# Altium footprint library mypcblib.PcbLib: 128 footprints (part 7 of 8)
Each footprint in its own frame and in the unit in brackets; x right, y up, seen from the top. Pads: shape width x height; smd on the part's side, far side on the other; paste and mask are expansions set on the pad; w line width, h text height; cw(c..) or ccw(c..) is an arc to the next point about the centre after c.
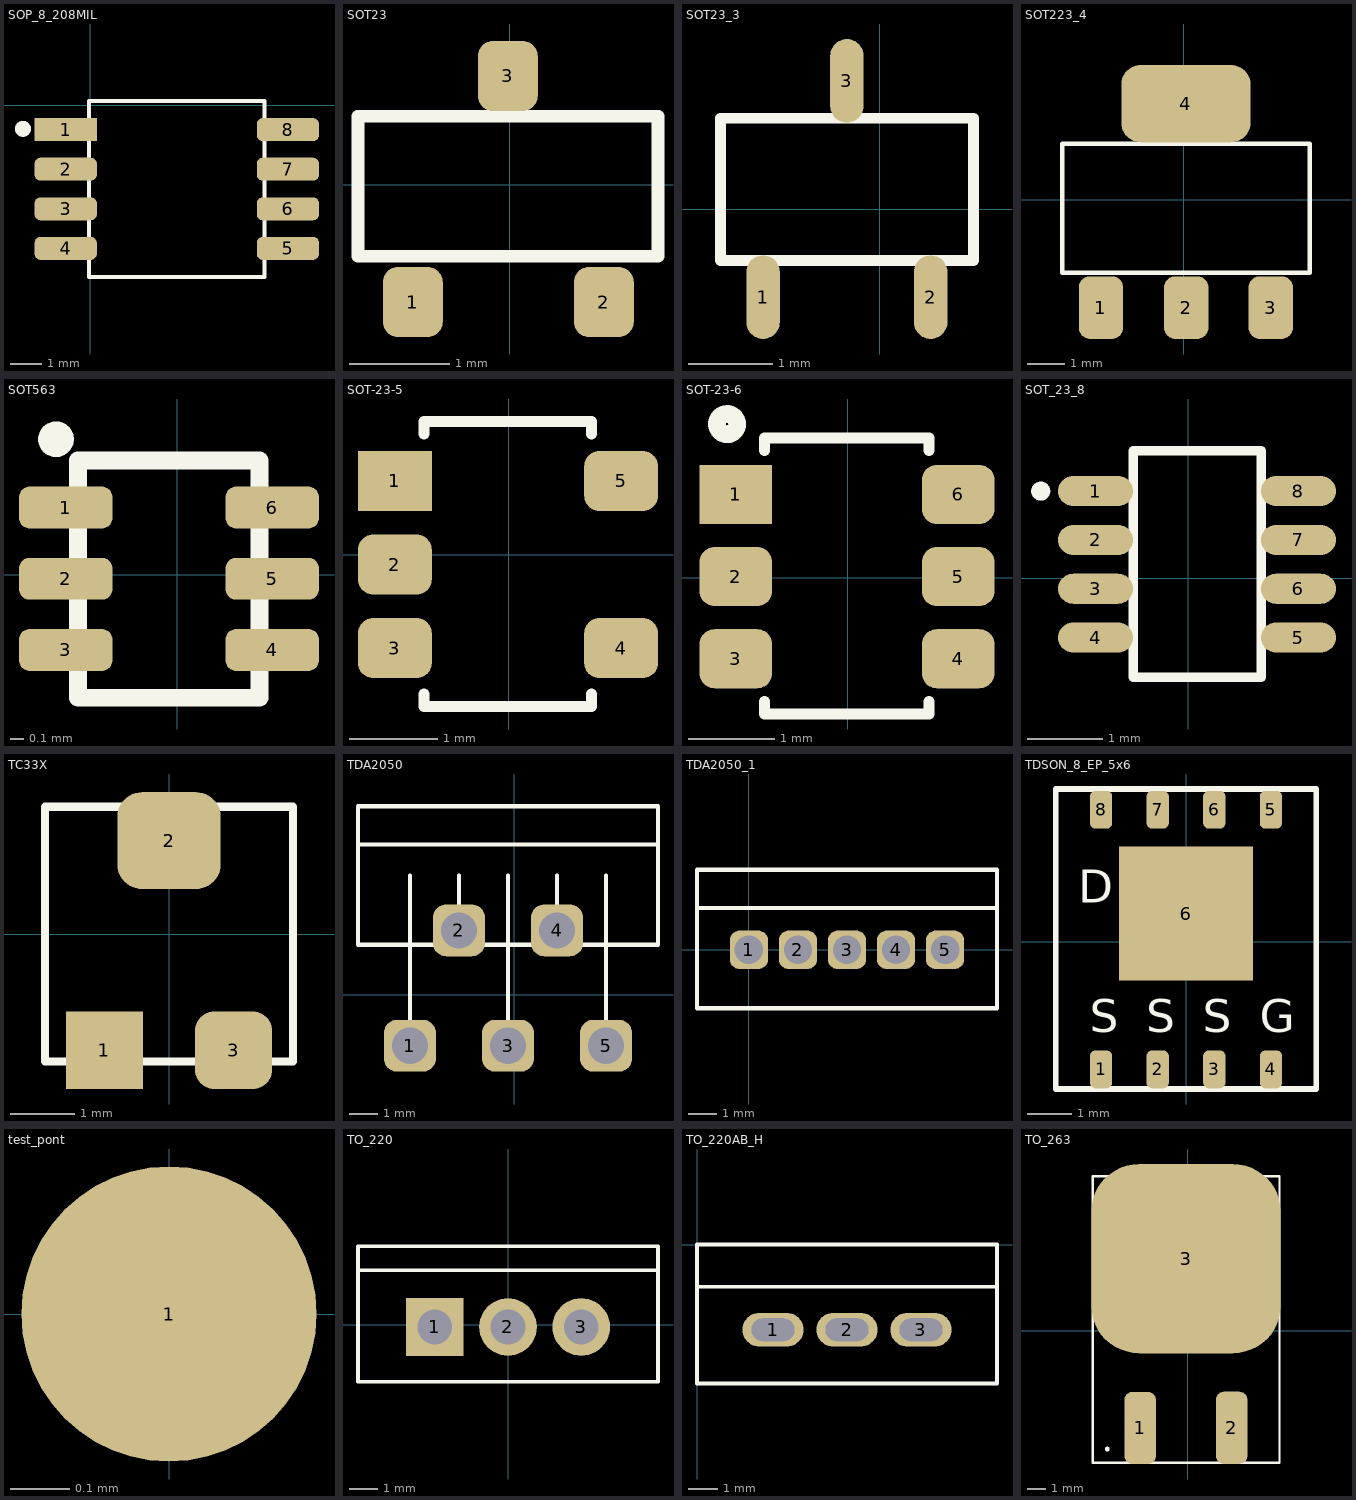
[diagram p6: the footprints below, top view; thin cyan lines are the x and y axes]

## SOP_8_208MIL [mm]
pads (8):
  rect 1.995x0.734 smd: 1(-0.789,-0.785)
  rrect50% 1.995x0.734 smd: 2(-0.789,-2.055) 3(-0.789,-3.325) 4(-0.789,-4.595) 5(6.332,-4.595) 6(6.332,-3.325) 7(6.332,-2.055) 8(6.332,-0.785)
Top Overlay:
  circle w0.254: c-2.159,-0.762 r0.127
  lines w0.127: -0.046,-5.507 -0.046,-5.38 -0.046,0 -0.046,0.127 0.081,0.127 5.461,0.127 5.588,0.127 5.588,0 5.588,-5.38 5.588,-5.507 5.461,-5.507 0.081,-5.507 -0.046,-5.507

## SOT23 [mm]
pads (3):
  rrect50% 0.6x0.7 smd: 1(-0.97,-1.171) 2(0.94,-1.171) 3(-0.02,1.09)
Top Overlay:
  lines w0.127: -1.208,-0.714 -0.728,-0.714 ; -0.258,0.686 0.222,0.686 ; 0.692,-0.714 1.172,-0.714 ; -1.518,-0.714 -1.518,0.686 1.482,0.686 1.482,-0.714 -1.518,-0.714
3D body "CircuitWorks-SOT-23.STEP": height 1.1, standoff 0, extent -1.52,-1.29 1.48,1.21

## SOT23_3 [mm]
pads (3):
  oval 0.4x1 smd: 1(-1.39,-1.05) 2(0.61,-1.05) 3(-0.39,1.53)
Top Overlay:
  lines w0.127: -1.639,-0.614 -1.139,-0.614 ; -0.639,1.086 -0.139,1.086 ; 0.361,-0.614 0.861,-0.614 ; -1.899,-0.614 -1.899,1.086 1.121,1.086 1.121,-0.614 -1.899,-0.614
3D body "User Library-SOT23-3.STEP": height 1.3, standoff 0, extent -1.84,-1.21 1.06,1.59

## SOT223_4 [mm]
pads (4):
  rrect50% 1.2x1.7 smd: 1(-2.25,-2.92) 2(0.06,-2.92) 3(2.35,-2.92)
  rrect50% 3.5x2.1 smd: 4(0.05,2.61)
Top Overlay:
  lines w0.127: -2.846,-1.977 -1.646,-1.977 ; -1.696,1.523 1.804,1.523 ; -0.546,-1.977 0.654,-1.977 ; 1.754,-1.977 2.954,-1.977 ; -3.296,-1.977 3.404,-1.977 3.404,1.523 -3.296,1.523 -3.296,-1.977

## SOT563 [mm]
pads (6):
  rrect50% 0.67x0.3 smd mask+0.051: 1(-0.8,0.48) 2(-0.8,-0.03) 3(-0.8,-0.54) 4(0.68,-0.54) 5(0.68,-0.03) 6(0.68,0.48)
Top Overlay:
  circle w0.127: c-0.87,0.97 r0.064
  lines w0.127: -0.712,-0.883 -0.712,0.817 0.588,0.817 0.588,-0.883 -0.712,-0.883
3D body "User Library-SOT-563.STEP": height 0.58, standoff 0, extent -0.863,-0.82 0.763,0.78

## SOT-23-5 [mm]
pads (5):
  rect 0.839x0.684 smd: 1(-1.295,0.838)
  rrect50% 0.839x0.684 smd: 2(-1.295,-0.112) 3(-1.295,-1.062) 4(1.276,-1.062) 5(1.276,0.838)
Top Overlay:
  lines w0.127: -0.965,-1.584 -0.965,-1.727 0.711,-1.727 0.94,-1.727 0.94,-1.584 ; -0.965,1.372 -0.965,1.515 -0.737,1.515 0.94,1.515 0.94,1.372

## SOT-23-6 [mm]
pads (6):
  rect 0.839x0.684 smd: 1(-1.295,0.965)
  rrect50% 0.839x0.684 smd: 2(-1.295,0.015) 3(-1.295,-0.935) 4(1.276,-0.935) 5(1.276,0.015) 6(1.276,0.965)
Top Overlay:
  lines w0.127: -0.965,-1.431 -0.965,-1.575 0.711,-1.575 0.94,-1.575 0.94,-1.431 ; -0.965,1.473 -0.965,1.617 -0.737,1.617 0.94,1.617 0.94,1.473
  lines w0.203: -1.28,1.781 cw(c-1.397,1.778) -1.281,1.792

## SOT_23_8 [mm]
pads (8):
  oval 1x0.4 smd: 1(-1.23,1.16) 2(-1.23,0.51) 3(-1.23,-0.14) 4(-1.23,-0.79) 5(1.47,-0.79) 6(1.47,-0.14) 7(1.47,0.51) 8(1.47,1.16)
Top Overlay:
  circle w0.127: c-1.96,1.16 r0.063
  lines w0.127: -0.726,-1.321 0.974,-1.321 0.974,1.699 -0.726,1.699 -0.726,-1.321

## TC33X [mm] "可调电阻/电位器"
pads (3):
  rect 1.2x1.2 smd: 1(-1,-1.8)
  rrect50% 1.6x1.5 smd: 2(0,1.45)
  rrect50% 1.2x1.2 smd: 3(1,-1.8)
Top Overlay:
  lines w0.127: -1.923,-1.975 1.923,-1.975 1.923,1.975 -1.923,1.975 -1.923,-1.975

## TDA2050 [mil]
pads (5):
  rrect50% 72.01x72.01 hole 50: 1(-145,-71) 2(-77,89) 3(-9,-71) 4(59,89) 5(127,-71)
Top Overlay:
  lines w6: -217,208 27,208 199,208 ; -145,-71 -145,164.98 ; -77,89 -77,164.98 ; -9,-71 -9,164.98 ; 59,89 59,164.98 ; 127,-71 127,164.98 ; -217,69 199,69 199,261.01 -217,261.01 -217,69

## TDA2050_1 [mm]
pads (5):
  rrect50% 1.35x1.35 hole 1: 1(0,0) 2(1.727,0) 3(3.454,0) 4(5.182,0) 5(6.909,0)
Top Overlay:
  lines w0.152: -1.829,1.473 4.369,1.473 8.738,1.473 ; -1.829,-2.057 8.738,-2.057 8.738,2.82 -1.829,2.82 -1.829,-2.057

## TDSON_8_EP_5x6 [mm] "BSC0702LS"
pads (9):
  rrect50% 0.5x0.85 smd: 1(-1.905,-2.862) 2(-0.635,-2.862) 3(0.635,-2.862) 4(1.905,-2.862) 5(1.905,2.963) 6(0.635,2.963) 7(-0.635,2.963) 8(-1.905,2.963)
  rect 3x3 smd: 6(0,0.635)
Top Overlay:
  lines w0.127: -2.921,-3.302 2.921,-3.302 2.921,3.429 -2.921,3.429 -2.921,-3.302
  text "D" at -2.413,0.635 h1.27
  text "G" at 1.651,-2.273 h1.27
  text "S" at 0.381,-2.273 h1.27
  text "S" at -0.889,-2.273 h1.27
  text "S" at -2.159,-2.273 h1.27

## test_pont [mm]
pads (1):
  round 0.5 smd paste+0 mask+0: 1(0,0)

## TO_220 [mm]
pads (3):
  rect 2x2 hole 1.2: 1(-2.541,-0.076)
  round 2 hole 1.2: 2(-0.001,-0.076) 3(2.539,-0.076)
Top Overlay:
  lines w0.127: -5.2,1.89 5.2,1.89 ; -5.201,-1.976 5.199,-1.976 5.199,2.724 -5.201,2.724 -5.201,-1.976

## TO_220AB_H [mm] "MCP07N65"
pads (3):
  oval 2.105x1.158 hole 0.777 slot 1.47 at 0 deg: 1(2.61,-2.925) 2(5.15,-2.925) 3(7.69,-2.925)
Top Overlay:
  lines w0.127: 0,-1.45 10.3,-1.45 ; 0,-4.77 10.3,-4.77 10.3,0 0,0 0,-4.77

## TO_263 [mm]
pads (3):
  rrect50% 1.75x4 smd: 1(-2.64,-5.38) 2(2.43,-5.37)
  rrect50% 10.5x10.5 smd: 3(-0.1,4.01)
Top Layer:
  lines w0.127: -3.514,-7.305 -1.764,-7.305 ; 1.566,-7.305 3.316,-7.305
Top Overlay:
  circle w0.127: c-4.47,-6.55 r0.064
  lines w0.127: -3.924,8.575 3.726,8.575 ; -5.279,-7.305 -5.279,8.575 5.081,8.575 5.081,-7.305 -5.279,-7.305